# Altium schematic symbol library bp.SchLib: 1 symbol
Pins are listed as number, name and electrical type; pins without a type are passive.

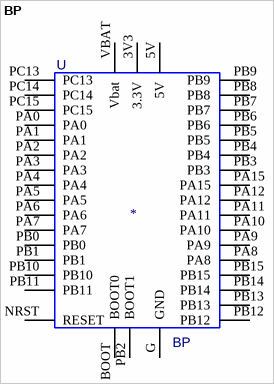
[diagram p0: symbol BP]

## BP
designator U  value BP
Footprint: Module:blue_pill
footprint blue_pill
pins: 3V3 3.3V, 5V, BOOT BOOT0, G GND, NRST RESET, PA0, PA1, PA2, PA3, PA4, PA5, PA6, PA7, PA8, PA9, PA10, PA11, PA12, PA15, PB0, PB1, PB2 BOOT1, PB3, PB4, PB5, PB6, PB7, PB8, PB9, PB10, PB11, PB12, PB13, PB14, PB15, PC13, PC14, PC15, VBAT Vbat